# EAGLE library part MPU9250 (library KwanSystems)
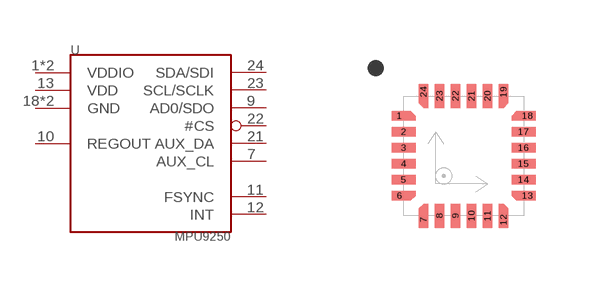
[diagram p47: symbol with the pads of LQFN_3MM_3MM; footprint LQFN_3MM_3MM]

Designator prefix -

## MPU9250  [LQFN_3MM_3MM]
1  VDDIO
7  AUX_CL
8  VDDIO
9  AD0/SDO
10  REGOUT
11  FSYNC
12  INT
13  VDD
18  GND
20  GND
21  AUX_DA
22  #CS
23  SCL/SCLK
24  SDA/SDI

## Footprint LQFN_3MM_3MM (pad centres in mm)
smd 0.4 x 0.24: 1 -1.6,1; 6 -1.6,-1; 13 1.6,-1; 18 1.6,1
smd 0.6 x 0.24: 2 -1.5,0.6; 3 -1.5,0.2; 4 -1.5,-0.2; 5 -1.5,-0.6; 14 1.5,-0.6; 15 1.5,-0.2; 16 1.5,0.2; 17 1.5,0.6
smd 0.24 x 0.4: 7 -1,-1.6; 12 1,-1.6; 19 1,1.6; 24 -1,1.6
smd 0.24 x 0.6: 8 -0.6,-1.5; 9 -0.2,-1.5; 10 0.2,-1.5; 11 0.6,-1.5; 20 0.6,1.5; 21 0.2,1.5; 22 -0.2,1.5; 23 -0.6,1.5